# Altium footprint library SOP.PcbLib: 40 footprints (part 3 of 3)
Each footprint in its own frame and in the unit in brackets; x right, y up, seen from the top. Pads: shape width x height; smd on the part's side, far side on the other; paste and mask are expansions set on the pad; w line width, h text height; cw(c..) or ccw(c..) is an arc to the next point about the centre after c.
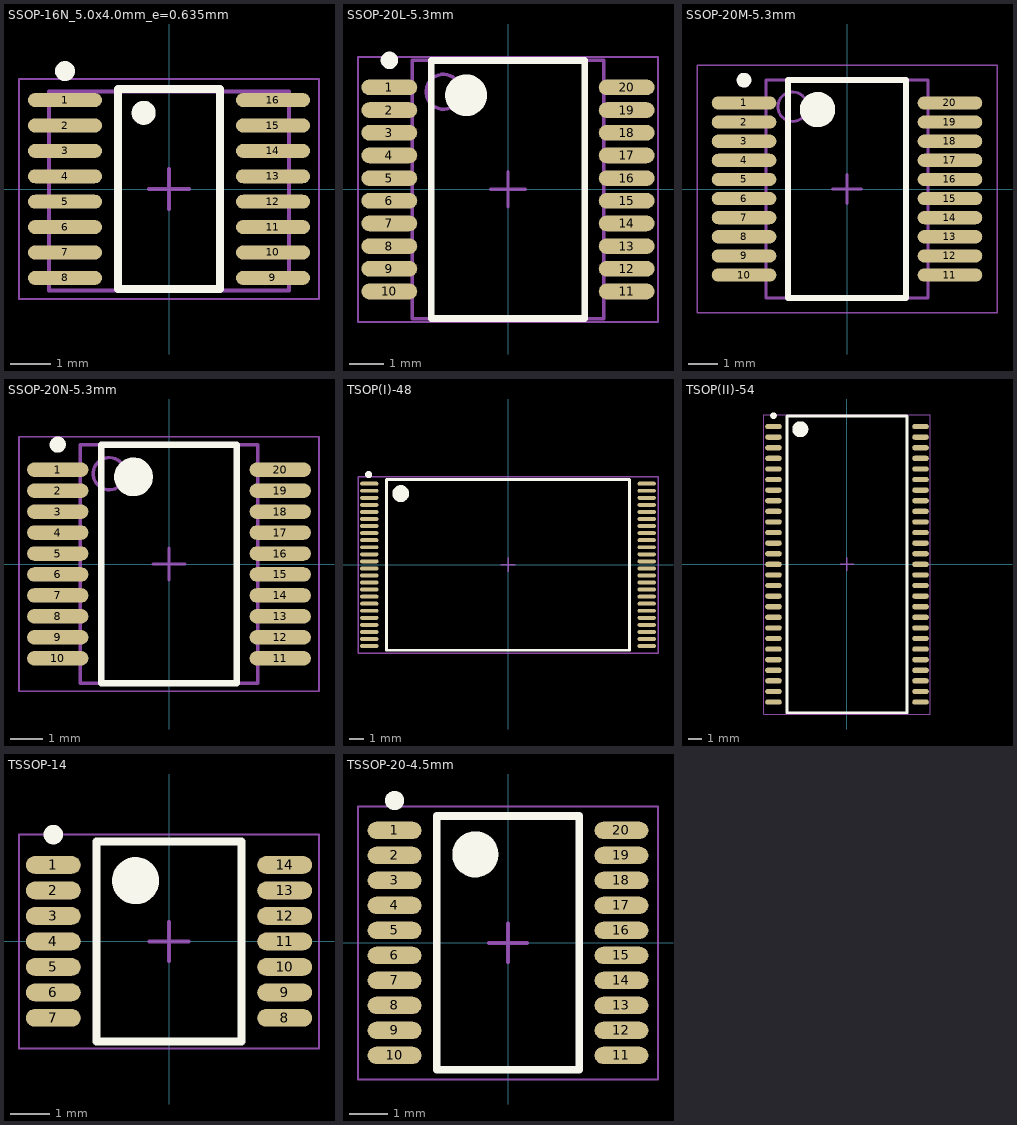
[diagram p2: the footprints below, top view; thin cyan lines are the x and y axes]

## SSOP-16N_5.0x4.0mm_e=0.635mm [mm] "SOP, 16-Leads, Body 4.90x3.90mm, Pitch 0.64mm, IPC Medium Density"
height 1.75
pads (16):
  oval 1.85x0.35 smd: 1(-2.6,2.222) 2(-2.6,1.587) 3(-2.6,0.953) 4(-2.6,0.318) 5(-2.6,-0.318) 6(-2.6,-0.953) 7(-2.6,-1.587) 8(-2.6,-2.222) 9(2.6,-2.222) 10(2.6,-1.587) 11(2.6,-0.953) 12(2.6,-0.318) 13(2.6,0.318) 14(2.6,0.953) 15(2.6,1.587) 16(2.6,2.222)
Top Overlay:
  circle w0.3: c-0.635,1.905 r0.15
  circle w0.25: c-2.6,2.947 r0.125
  lines w0.2: -1.275,-2.5 1.275,-2.5 1.275,2.5 -1.275,2.5 -1.275,-2.5
Mechanical 13:
  lines w0.1: -2.997,-2.539 -2.997,2.439 2.997,2.439 2.997,-2.539 -2.997,-2.539
Mechanical 15:
  lines w0.05: -3.75,-2.75 3.75,-2.75 3.75,2.75 -3.75,2.75 -3.75,-2.75
  lines w0.1: -0.5,0 0.5,0 ; 0,-0.5 0,0.5
3D body "SSOP16_5.0x4.0mm_e=0.635mm.STEP": height 1.07, standoff -0.03, extent -2.997,-2.539 2.997,2.439

## SSOP-20L-5.3mm [mm] "SOP, 20-Leads, Body 7.20x5.30mm, Pitch 0.65mm, IPC High Density"
height 1.73
pads (20):
  oval 1.6x0.45 smd: 1(-3.4,2.925) 2(-3.4,2.275) 3(-3.4,1.625) 4(-3.4,0.975) 5(-3.4,0.325) 6(-3.4,-0.325) 7(-3.4,-0.975) 8(-3.4,-1.625) 9(-3.4,-2.275) 10(-3.4,-2.925) 11(3.4,-2.925) 12(3.4,-2.275) 13(3.4,-1.625) 14(3.4,-0.975) 15(3.4,-0.325) 16(3.4,0.325) 17(3.4,0.975) 18(3.4,1.625) 19(3.4,2.275) 20(3.4,2.925)
Top Overlay:
  circle w0.6: c-1.2,2.7 r0.3
  circle w0.25: c-3.4,3.7 r0.125
  lines w0.2: -2.2,-3.7 2.2,-3.7 2.2,3.7 -2.2,3.7 -2.2,-3.7
Mechanical 13:
  circle w0.1: c-1.85,2.8 r0.5
  lines w0.1: -2.75,-3.7 2.75,-3.7 2.75,3.7 -2.75,3.7 -2.75,-3.7
Mechanical 15:
  lines w0.05: -4.3,-3.8 4.3,-3.8 4.3,3.8 -4.3,3.8 -4.3,-3.8
  lines w0.1: -0.5,0 0.5,0 ; 0,-0.5 0,0.5
3D body: height 1.73, standoff 0.05, extent -2.75,-3.7 2.75,3.7

## SSOP-20M-5.3mm [mm] "SOP, 20-Leads, Body 7.20x5.30mm, Pitch 0.65mm, IPC Low Density"
height 1.73
pads (20):
  oval 2.2x0.45 smd: 1(-3.5,2.925) 2(-3.5,2.275) 3(-3.5,1.625) 4(-3.5,0.975) 5(-3.5,0.325) 6(-3.5,-0.325) 7(-3.5,-0.975) 8(-3.5,-1.625) 9(-3.5,-2.275) 10(-3.5,-2.925) 11(3.5,-2.925) 12(3.5,-2.275) 13(3.5,-1.625) 14(3.5,-0.975) 15(3.5,-0.325) 16(3.5,0.325) 17(3.5,0.975) 18(3.5,1.625) 19(3.5,2.275) 20(3.5,2.925)
Top Overlay:
  circle w0.6: c-1,2.7 r0.3
  circle w0.25: c-3.5,3.7 r0.125
  lines w0.2: -2,-3.7 2,-3.7 2,3.7 -2,3.7 -2,-3.7
Mechanical 13:
  circle w0.1: c-1.85,2.8 r0.5
  lines w0.1: -2.75,-3.7 2.75,-3.7 2.75,3.7 -2.75,3.7 -2.75,-3.7
Mechanical 15:
  lines w0.05: -5.1,-4.2 5.1,-4.2 5.1,4.2 -5.1,4.2 -5.1,-4.2
  lines w0.1: -0.5,0 0.5,0 ; 0,-0.5 0,0.5
3D body: height 1.73, standoff 0.05, extent -2.75,-3.7 2.75,3.7

## SSOP-20N-5.3mm [mm] "SOP, 20-Leads, Body 7.20x5.30mm, Pitch 0.65mm, IPC Medium Density"
height 1.73
pads (20):
  oval 1.9x0.45 smd: 1(-3.45,2.925) 2(-3.45,2.275) 3(-3.45,1.625) 4(-3.45,0.975) 5(-3.45,0.325) 6(-3.45,-0.325) 7(-3.45,-0.975) 8(-3.45,-1.625) 9(-3.45,-2.275) 10(-3.45,-2.925) 11(3.45,-2.925) 12(3.45,-2.275) 13(3.45,-1.625) 14(3.45,-0.975) 15(3.45,-0.325) 16(3.45,0.325) 17(3.45,0.975) 18(3.45,1.625) 19(3.45,2.275) 20(3.45,2.925)
Top Overlay:
  circle w0.25: c-3.45,3.7 r0.125
  circle w0.6: c-1.1,2.7 r0.3
  lines w0.2: -2.1,-3.7 -2.1,3.7 2.1,3.7 2.1,-3.7 -2.1,-3.7
Mechanical 13:
  circle w0.1: c-1.85,2.8 r0.5
  lines w0.1: -2.75,-3.7 -2.75,3.7 2.75,3.7 2.75,-3.7 -2.75,-3.7
Mechanical 15:
  lines w0.05: -4.65,-3.95 -4.65,3.95 4.65,3.95 4.65,-3.95 -4.65,-3.95
  lines w0.1: -0.5,0 0.5,0 ; 0,-0.5 0,0.5
3D body: height 1.73, standoff 0.05, extent -2.75,-3.7 2.75,3.7

## TSOP(I)-48 [mm] "TSSOP, 48-Leads, Body 12.1x18.5mm (max), Pitch 0.50mm, IPC Medium Density"
height 1.2
pads (48):
  oval 1.3x0.28 smd: 1(-9.825,5.75) 2(-9.825,5.25) 3(-9.825,4.75) 4(-9.825,4.25) 5(-9.825,3.75) 6(-9.825,3.25) 7(-9.825,2.75) 8(-9.825,2.25) 9(-9.825,1.75) 10(-9.825,1.25) 11(-9.825,0.75) 12(-9.825,0.25) 13(-9.825,-0.25) 14(-9.825,-0.75) 15(-9.825,-1.25) 16(-9.825,-1.75) 17(-9.825,-2.25) 18(-9.825,-2.75) 19(-9.825,-3.25) 20(-9.825,-3.75) 21(-9.825,-4.25) 22(-9.825,-4.75) 23(-9.825,-5.25) 24(-9.825,-5.75) 25(9.825,-5.75) 26(9.825,-5.25) 27(9.825,-4.75) 28(9.825,-4.25) 29(9.825,-3.75) 30(9.825,-3.25) 31(9.825,-2.75) 32(9.825,-2.25) 33(9.825,-1.75) 34(9.825,-1.25) 35(9.825,-0.75) 36(9.825,-0.25) 37(9.825,0.25) 38(9.825,0.75) 39(9.825,1.25) 40(9.825,1.75) 41(9.825,2.25) 42(9.825,2.75) 43(9.825,3.25) 44(9.825,3.75) 45(9.825,4.25) 46(9.825,4.75) 47(9.825,5.25) 48(9.825,5.75)
Top Overlay:
  circle w0.6: c-7.6,5.05 r0.3
  circle w0.25: c-9.875,6.4 r0.125
  lines w0.2: -8.6,-6.05 8.6,-6.05 8.6,6.05 -8.6,6.05 -8.6,-6.05
Mechanical 15:
  lines w0.1: -0.5,0 0.5,0 ; 0,-0.5 0,0.5 ; -10.625,-6.25 10.625,-6.25 10.625,6.25 -10.625,6.25 -10.625,-6.25
3D body "TSOP(I)-48.STEP": height 1.15, standoff 0, extent -10.058,-5.997 10.058,5.997

## TSOP(II)-54 [mm] "TSOP, 54-Leads, Body 22.22x10.16mm, Pitch 0.80mm, IPC High Density"
height 1.2
pads (54):
  oval 1.25x0.4 smd: 1(-5.55,10.4) 2(-5.55,9.6) 3(-5.55,8.8) 4(-5.55,8) 5(-5.55,7.2) 6(-5.55,6.4) 7(-5.55,5.6) 8(-5.55,4.8) 9(-5.55,4) 10(-5.55,3.2) 11(-5.55,2.4) 12(-5.55,1.6) 13(-5.55,0.8) 14(-5.55,0) 15(-5.55,-0.8) 16(-5.55,-1.6) 17(-5.55,-2.4) 18(-5.55,-3.2) 19(-5.55,-4) 20(-5.55,-4.8) 21(-5.55,-5.6) 22(-5.55,-6.4) 23(-5.55,-7.2) 24(-5.55,-8) 25(-5.55,-8.8) 26(-5.55,-9.6) 27(-5.55,-10.4) 28(5.55,-10.4) 29(5.55,-9.6) 30(5.55,-8.8) 31(5.55,-8) 32(5.55,-7.2) 33(5.55,-6.4) 34(5.55,-5.6) 35(5.55,-4.8) 36(5.55,-4) 37(5.55,-3.2) 38(5.55,-2.4) 39(5.55,-1.6) 40(5.55,-0.8) 41(5.55,0) 42(5.55,0.8) 43(5.55,1.6) 44(5.55,2.4) 45(5.55,3.2) 46(5.55,4) 47(5.55,4.8) 48(5.55,5.6) 49(5.55,6.4) 50(5.55,7.2) 51(5.55,8) 52(5.55,8.8) 53(5.55,9.6) 54(5.55,10.4)
Top Overlay:
  circle w0.6: c-3.525,10.2 r0.3
  circle w0.25: c-5.55,11.225 r0.125
  lines w0.2: -4.525,-11.2 4.525,-11.2 4.525,11.2 -4.525,11.2 -4.525,-11.2
Mechanical 15:
  lines w0.05: -6.275,-11.3 6.275,-11.3 6.275,11.3 -6.275,11.3 -6.275,-11.3
  lines w0.1: -0.5,0 0.5,0 ; 0,-0.5 0,0.5
3D body "TSOP(II)-54.STEP": height 1.25, standoff 0, extent -5.88,-11.11 5.88,11.11

## TSSOP-14 [mm] "TSOP, 14-Leads, Body 5.00x4.40mm, Pitch 0.65mm, IPC Medium Density"
height 1.2
pads (14):
  oval 1.4x0.45 smd: 1(-2.95,1.95) 2(-2.95,1.3) 3(-2.95,0.65) 4(-2.95,0) 5(-2.95,-0.65) 6(-2.95,-1.3) 7(-2.95,-1.95) 8(2.95,-1.95) 9(2.95,-1.3) 10(2.95,-0.65) 11(2.95,0) 12(2.95,0.65) 13(2.95,1.3) 14(2.95,1.95)
Top Overlay:
  circle w0.25: c-2.95,2.725 r0.125
  circle w0.6: c-0.85,1.55 r0.3
  lines w0.2: -1.85,-2.55 -1.85,2.55 1.85,2.55 1.85,-2.55 -1.85,-2.55
Mechanical 15:
  lines w0.05: -3.825,-2.725 -3.825,2.725 3.825,2.725 3.825,-2.725 -3.825,-2.725
  lines w0.1: -0.5,0 0.5,0 ; 0,-0.5 0,0.5
3D body "TSSOP-14_5.1x4.4mm.STEP": height 1.1, standoff 0, extent -3.2,-2.5 3.2,2.5

## TSSOP-20-4.5mm [mm] "TSOP, 20-Leads, Body 6.50x4.40mm, Pitch 0.65mm, IPC Medium Density"
height 1.2
pads (20):
  oval 1.4x0.45 smd: 1(-2.95,2.925) 2(-2.95,2.275) 3(-2.95,1.625) 4(-2.95,0.975) 5(-2.95,0.325) 6(-2.95,-0.325) 7(-2.95,-0.975) 8(-2.95,-1.625) 9(-2.95,-2.275) 10(-2.95,-2.925) 11(2.95,-2.925) 12(2.95,-2.275) 13(2.95,-1.625) 14(2.95,-0.975) 15(2.95,-0.325) 16(2.95,0.325) 17(2.95,0.975) 18(2.95,1.625) 19(2.95,2.275) 20(2.95,2.925)
Top Overlay:
  circle w0.6: c-0.85,2.3 r0.3
  circle w0.25: c-2.95,3.7 r0.125
  lines w0.2: -1.85,-3.3 1.85,-3.3 1.85,3.3 -1.85,3.3 -1.85,-3.3
Mechanical 15:
  lines w0.05: -3.9,-3.55 3.9,-3.55 3.9,3.55 -3.9,3.55 -3.9,-3.55
  lines w0.1: -0.5,0 0.5,0 ; 0,-0.5 0,0.5
3D body "TSSOP-20.STEP": height 1.2, standoff 0, extent -3.3,-3.3 3.3,3.3